# EAGLE library part LMP2232AMA (library LMP2232AMA)
Check availability <https://pricing.snapeda.com/parts/LMP2232AMA/Texas%20Instruments/view-part?ref=eda>
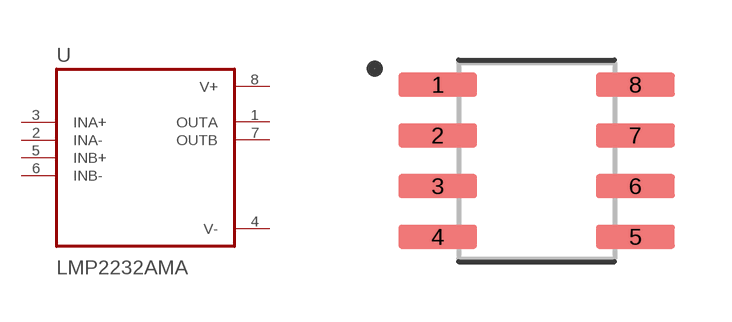
[diagram p0: symbol with the pads of SOIC127P599X175-8N; footprint SOIC127P599X175-8N]

Designator prefix U

## LMP2232AMA (AVAILABILITY: In Stock; DESCRIPTION: General Purpose Amplifier 2 Circuit Differential, Rail-to-Rail 8-SOIC; MF: Texas Instruments; MP: LMP2232AMA; PACKAGE: SOIC-8 Texas Instruments; PRICE: None; PURCHASE-URL: https://pricing.snapeda.com/search/part/LMP2232AMA/?ref=eda)  [SOIC127P599X175-8N]
1  OUTA  out
2  INA-  in
3  INA+  in
4  V-  pwr
5  INB+  in
6  INB-  in
7  OUTB  out
8  V+  pwr

## Footprint SOIC127P599X175-8N (pad centres in mm)
smd 1.97 x 0.6: 1 -2.47,1.905; 2 -2.47,0.635; 3 -2.47,-0.635; 4 -2.47,-1.905; 5 2.47,-1.905; 6 2.47,-0.635; 7 2.47,0.635; 8 2.47,1.905